# EAGLE library part LED_5060_RGB (library Radicon)
LED 5060 RGB
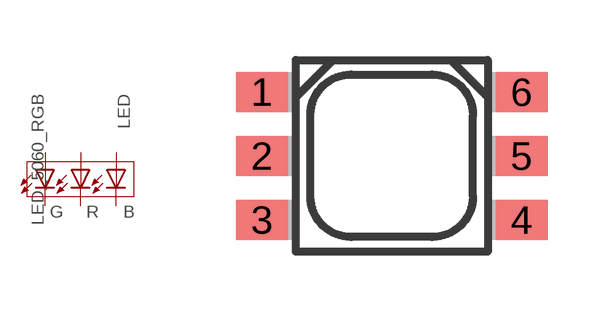
[diagram p18: symbol with the pads of LED5060; footprint LED5060]

Designator prefix LED

## LED_5060_RGB  [LED5060]
1  BC  pas
2  RC  pas
3  GC  pas
4  GA  pas
5  RA  pas
6  BA  pas

## Footprint LED5060 (pad centres in mm)
5060 RGB LED
smd 1.3 x 1: 1 -3.25,1.6; 2 -3.25,0; 3 -3.25,-1.6; 4 3.25,-1.6; 5 3.25,0; 6 3.25,1.6